# EAGLE library part ESP-02 (library Co.-ESP)
ESP8266 Wifi Module ESP-02
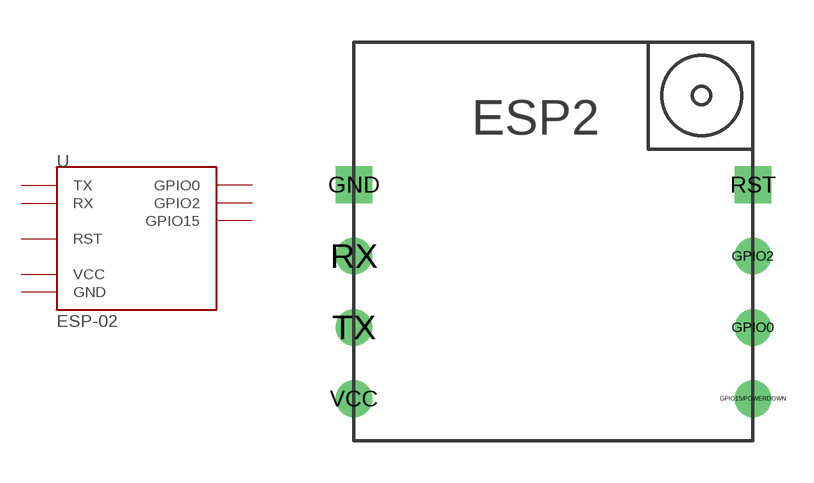
[diagram p3: symbol with the pads of ESP-02; footprint ESP-02]

Designator prefix -

## ESP-02 (DIMENSIONS: 14.2 x 14.2 mm; PINS: 8; PITCH: 0.1” / 2.54 mm)  [ESP-02]
GND  GND
GPIO0  GPIO0
GPIO2  GPIO2
GPIO15/POWERDOWN  GPIO15
RST  RST
RX  RX
TX  TX
VCC  VCC

## Footprint ESP-02 (pad centres in mm)
ESP8266 Module ESP-02
drill 0.8 square: GND -7,2.92; RST 7.21,2.92
drill 0.8: GPIO0 7.21,-2.16; GPIO2 7.21,0.38; GPIO15/POWERDOWN 7.21,-4.7; RX -7,0.38; TX -7,-2.16; VCC -7,-4.7